# Altium footprint library XT.PcbLib: 4 footprints
Each footprint in its own frame and in the unit in brackets; x right, y up, seen from the top. Pads: shape width x height; smd on the part's side, far side on the other; paste and mask are expansions set on the pad; w line width, h text height; cw(c..) or ccw(c..) is an arc to the next point about the centre after c.
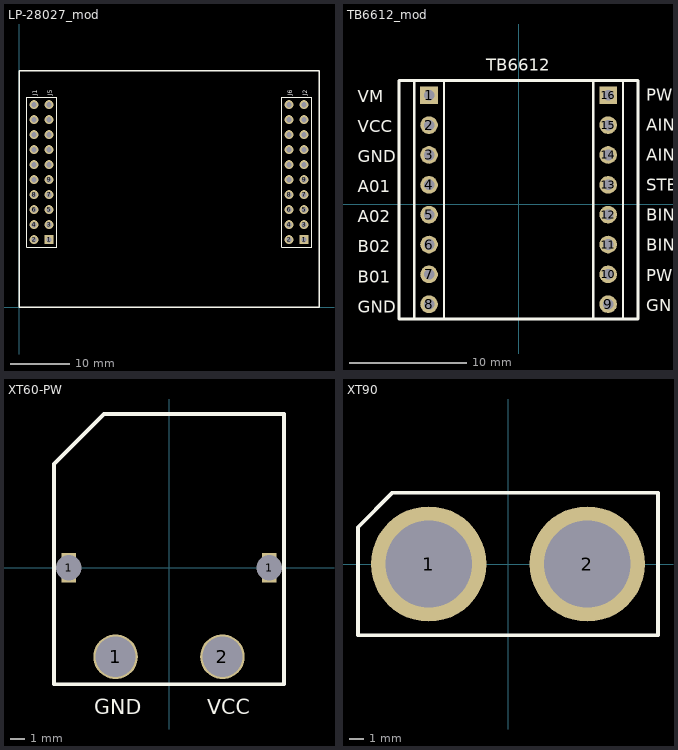
[diagram p0: the footprints below, top view; thin cyan lines are the x and y axes]

## LP-28027_mod [mm]
pads (40):
  rect 1.5x1.5 hole 0.9: 1(5.08,11.43) 1(48.26,11.43)
  round 1.5 hole 0.9: 2(2.54,11.43) 2(45.72,11.43) 3(5.08,13.97) 3(48.26,13.97) 4(2.54,13.97) 4(45.72,13.97) 5(5.08,16.51) 5(48.26,16.51) 6(2.54,16.51) 6(45.72,16.51) 7(5.08,19.05) 7(48.26,19.05) 8(2.54,19.05) 8(45.72,19.05) 9(5.08,21.59) 9(48.26,21.59) 10(2.54,21.59) 10(45.72,21.59) 11(5.08,24.13) 11(48.26,24.13) 12(2.54,24.13) 12(45.72,24.13) 13(5.08,26.67) 13(48.26,26.67) 14(2.54,26.67) 14(45.72,26.67) 15(5.08,29.21) 15(48.26,29.21) 16(2.54,29.21) 16(45.72,29.21) 17(5.08,31.75) 17(48.26,31.75) 18(2.54,31.75) 18(45.72,31.75) 19(5.08,34.29) 19(48.26,34.29) 20(2.54,34.29) 20(45.72,34.29)
Top Overlay:
  lines w0.2: 1.27,10.16 1.27,12.065 1.27,35.56 6.35,35.56 6.35,12.065 6.35,10.16 1.27,10.16 ; 44.45,10.16 44.45,12.065 44.45,35.56 49.53,35.56 49.53,12.065 49.53,10.16 44.45,10.16
  lines w0.254: 0,0 50.8,0 50.8,40.005 0,40.005 0,0
  text "J2" at 48.768,35.814 h0.76
  text "J6" at 46.228,35.814 h0.76
  text "J1" at 3.048,35.814 h0.76
  text "J5" at 5.588,35.814 h0.76

## TB6612_mod [mm]
pads (16):
  rect 1.5x1.5 hole 0.9: 1(-7.62,9.27) 16(7.62,9.271)
  round 1.5 hole 0.9: 2(-7.62,6.73) 3(-7.62,4.19) 4(-7.62,1.65) 5(-7.62,-0.89) 6(-7.62,-3.43) 7(-7.62,-5.97) 8(-7.62,-8.51) 9(7.62,-8.509) 10(7.62,-5.969) 11(7.62,-3.429) 12(7.62,-0.889) 13(7.62,1.651) 14(7.62,4.191) 15(7.62,6.731)
Top Overlay:
  lines w0.2: -8.89,-9.78 -6.35,-9.78 -6.35,10.54 -8.89,10.54 -8.89,-9.78 ; 6.35,-9.779 8.89,-9.779 8.89,10.541 6.35,10.541 6.35,-9.779
  lines w0.254: -10.16,-9.779 -10.16,10.541 10.16,10.541 10.16,-9.779 -10.16,-9.779
  text "GND" at 10.846,-9.093 h1.02
  text "PWMB" at 10.846,-6.535 h1.02
  text "BIN2" at 10.846,-3.977 h1.02
  text "BIN1" at 10.846,-1.419 h1.02
  text "STBY" at 10.846,1.139 h1.02
  text "AIN1" at 10.846,3.698 h1.02
  text "AIN2" at 10.846,6.256 h1.02
  text "PWMA" at 10.846,8.814 h1.02
  text "TB6612" at -2.743,11.354 h1.02
  text "GND" at -13.665,-9.22 h1.02
  text "B01" at -13.665,-6.662 h1.02
  text "B02" at -13.665,-4.104 h1.02
  text "A02" at -13.665,-1.546 h1.02
  text "A01" at -13.665,1.012 h1.02
  text "GND" at -13.665,3.571 h1.02
  text "VCC" at -13.665,6.129 h1.02
  text "VM" at -13.665,8.687 h1.02

## XT60-PW [mm]
pads (4):
  rect 1x2 hole 1.7 square: 1(-6.75,0) 1(6.75,0)
  round 3 hole 2.7: 1(-3.6,-6) 2(3.6,-6)
Top Overlay:
  lines w0.254: -7.75,-7.85 -7.75,6.982 -4.382,10.35 7.75,10.35 7.75,-7.85 -7.75,-7.85
  text "VCC" at 2.591,-9.855 h1.02
  text "GND" at -5.029,-9.855 h1.02

## XT90 [mm]
pads (2):
  round 8 hole 6: 1(-5.5,0) 2(5.5,0)
Top Overlay:
  lines w0.254: -10.4,-4.95 10.4,-4.95 10.4,4.95 -8.004,4.95 -10.4,2.554 -10.4,-4.95